# Altium footprint library USB2AER3.PcbLib: 23 footprints (part 1 of 2)
Each footprint in its own frame and in the unit in brackets; x right, y up, seen from the top. Pads: shape width x height; smd on the part's side, far side on the other; paste and mask are expansions set on the pad; w line width, h text height; cw(c..) or ccw(c..) is an arc to the next point about the centre after c.
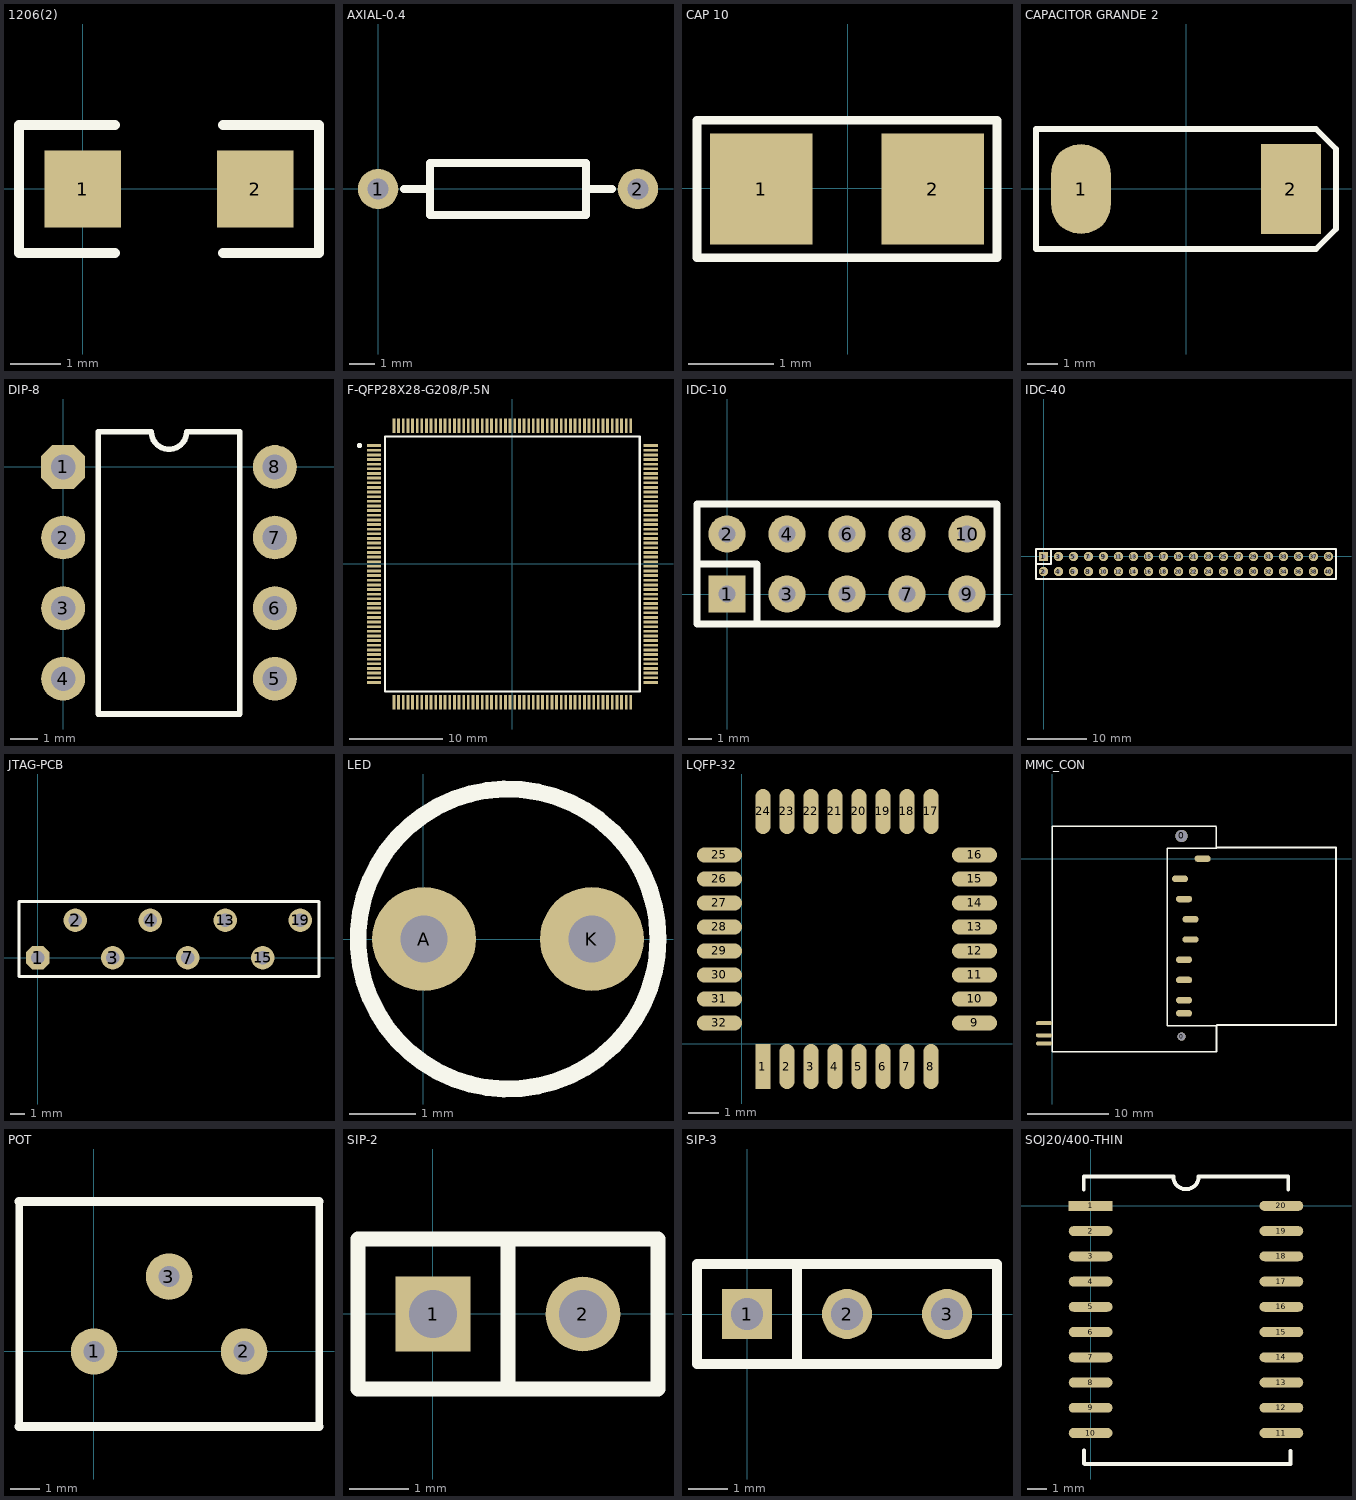
[diagram p0: the footprints below, top view; thin cyan lines are the x and y axes]

## 1206(2) [mil]
pads (2):
  rect 60x60 smd: 1(0.13,-0.19) 2(135.13,-0.19)
Top Overlay:
  lines w7.87: 25.13,-50.19 -49.87,-50.19 -49.87,49.81 25.13,49.81 ; 110.13,-50.19 185.13,-50.19 185.13,49.81 110.13,49.81

## AXIAL-0.4 [mil]
pads (2):
  round 62 hole 32: 1(0.2,-0.13) 2(400.2,-0.13)
Top Overlay:
  lines w12: 40.2,-0.13 80.2,-0.13 ; 320.2,-0.13 360.2,-0.13 ; 80.2,-40.13 80.2,39.87 320.2,39.87 320.2,-40.13 80.2,-40.13

## CAP 10 [mm]
pads (2):
  rect 1.2x1.3 smd: 1(-1.009,-0.007) 2(0.991,-0.007)
Top Overlay:
  lines w0.1: -1.759,-0.807 -1.759,-0.007 -1.759,0.793 1.741,0.793 1.741,-0.807 -1.759,-0.807

## CAPACITOR GRANDE 2 [mm]
pads (2):
  oval 2x3 smd: 1(-3.503,-0.009)
  rect 2x3 smd: 2(3.497,-0.009)
Top Overlay:
  lines w0.2: -5.003,-2.009 -5.003,-0.009 -5.003,1.991 4.33,1.991 4.997,1.325 4.997,-1.342 4.33,-2.009 -5.003,-2.009

## DIP-8 [mil]
pads (8):
  oct 62x62 hole 35: 1(-0.3,-0.19)
  round 62 hole 35: 2(-0.3,-100.19) 3(-0.3,-200.19) 4(-0.3,-300.19) 5(299.7,-300.19) 6(299.7,-200.19) 7(299.7,-100.19) 8(299.7,-0.19)
Top Overlay:
  lines w7.87: 49.7,-350.19 49.7,49.81 124.7,49.81 ccw(c149.7,49.81) 174.7,49.81 249.7,49.81 249.7,-350.19 49.7,-350.19

## F-QFP28X28-G208/P.5N [mm]
pads (208):
  rect 1.55x0.3 smd: 1(-14.907,12.74) 2(-14.907,12.24) 3(-14.907,11.74) 4(-14.907,11.24) 5(-14.907,10.74) 6(-14.907,10.24) 7(-14.907,9.74) 8(-14.907,9.24) 9(-14.907,8.74) 10(-14.907,8.24) 11(-14.907,7.74) 12(-14.907,7.24) 13(-14.907,6.74) 14(-14.907,6.24) 15(-14.907,5.74) 16(-14.907,5.24) 17(-14.907,4.74) 18(-14.907,4.24) 19(-14.907,3.74) 20(-14.907,3.24) 21(-14.907,2.74) 22(-14.907,2.24) 23(-14.907,1.74) 24(-14.907,1.24) 25(-14.907,0.74) 26(-14.907,0.24) 27(-14.907,-0.26) 28(-14.907,-0.76) 29(-14.907,-1.26) 30(-14.907,-1.76) 31(-14.907,-2.26) 32(-14.907,-2.76) 33(-14.907,-3.26) 34(-14.907,-3.76) 35(-14.907,-4.26) 36(-14.907,-4.76) 37(-14.907,-5.26) 38(-14.907,-5.76) 39(-14.907,-6.26) 40(-14.907,-6.76) 41(-14.907,-7.26) 42(-14.907,-7.76) 43(-14.907,-8.26) 44(-14.907,-8.76) 45(-14.907,-9.26) 46(-14.907,-9.76) 47(-14.907,-10.26) 48(-14.907,-10.76) 49(-14.907,-11.26) 50(-14.907,-11.76) 51(-14.907,-12.26) 52(-14.907,-12.76) 105(14.893,-12.76) 106(14.893,-12.26) 107(14.893,-11.76) 108(14.893,-11.26) 109(14.893,-10.76) 110(14.893,-10.26) 111(14.893,-9.76) 112(14.893,-9.26) 113(14.893,-8.76) 114(14.893,-8.26) 115(14.893,-7.76) 116(14.893,-7.26) 117(14.893,-6.76) 118(14.893,-6.26) 119(14.893,-5.76) 120(14.893,-5.26) 121(14.893,-4.76) 122(14.893,-4.26) 123(14.893,-3.76) 124(14.893,-3.26) 125(14.893,-2.76) 126(14.893,-2.26) 127(14.893,-1.76) 128(14.893,-1.26) 129(14.893,-0.76) 130(14.893,-0.26) 131(14.893,0.24) 132(14.893,0.74) 133(14.893,1.24) 134(14.893,1.74) 135(14.893,2.24) 136(14.893,2.74) 137(14.893,3.24) 138(14.893,3.74) 139(14.893,4.24) 140(14.893,4.74) 141(14.893,5.24) 142(14.893,5.74) 143(14.893,6.24) 144(14.893,6.74) 145(14.893,7.24) 146(14.893,7.74) 147(14.893,8.24) 148(14.893,8.74) 149(14.893,9.24) 150(14.893,9.74) 151(14.893,10.24) 152(14.893,10.74) 153(14.893,11.24) 154(14.893,11.74) 155(14.893,12.24) 156(14.893,12.74)
  rect 0.3x1.55 smd: 53(-12.757,-14.91) 54(-12.257,-14.91) 55(-11.757,-14.91) 56(-11.257,-14.91) 57(-10.757,-14.91) 58(-10.257,-14.91) 59(-9.757,-14.91) 60(-9.257,-14.91) 61(-8.757,-14.91) 62(-8.257,-14.91) 63(-7.757,-14.91) 64(-7.257,-14.91) 65(-6.757,-14.91) 66(-6.257,-14.91) 67(-5.757,-14.91) 68(-5.257,-14.91) 69(-4.757,-14.91) 70(-4.257,-14.91) 71(-3.757,-14.91) 72(-3.257,-14.91) 73(-2.757,-14.91) 74(-2.257,-14.91) 75(-1.757,-14.91) 76(-1.257,-14.91) 77(-0.757,-14.91) 78(-0.257,-14.91) 79(0.243,-14.91) 80(0.743,-14.91) 81(1.243,-14.91) 82(1.743,-14.91) 83(2.243,-14.91) 84(2.743,-14.91) 85(3.243,-14.91) 86(3.743,-14.91) 87(4.243,-14.91) 88(4.743,-14.91) 89(5.243,-14.91) 90(5.743,-14.91) 91(6.243,-14.91) 92(6.743,-14.91) 93(7.243,-14.91) 94(7.743,-14.91) 95(8.243,-14.91) 96(8.743,-14.91) 97(9.243,-14.91) 98(9.743,-14.91) 99(10.243,-14.91) 100(10.743,-14.91) 101(11.243,-14.91) 102(11.743,-14.91) 103(12.243,-14.91) 104(12.743,-14.91) 157(12.743,14.89) 158(12.243,14.89) 159(11.743,14.89) 160(11.243,14.89) 161(10.743,14.89) 162(10.243,14.89) 163(9.743,14.89) 164(9.243,14.89) 165(8.743,14.89) 166(8.243,14.89) 167(7.743,14.89) 168(7.243,14.89) 169(6.743,14.89) 170(6.243,14.89) 171(5.743,14.89) 172(5.243,14.89) 173(4.743,14.89) 174(4.243,14.89) 175(3.743,14.89) 176(3.243,14.89) 177(2.743,14.89) 178(2.243,14.89) 179(1.743,14.89) 180(1.243,14.89) 181(0.743,14.89) 182(0.243,14.89) 183(-0.257,14.89) 184(-0.757,14.89) 185(-1.257,14.89) 186(-1.757,14.89) 187(-2.257,14.89) 188(-2.757,14.89) 189(-3.257,14.89) 190(-3.757,14.89) 191(-4.257,14.89) 192(-4.757,14.89) 193(-5.257,14.89) 194(-5.757,14.89) 195(-6.257,14.89) 196(-6.757,14.89) 197(-7.257,14.89) 198(-7.757,14.89) 199(-8.257,14.89) 200(-8.757,14.89) 201(-9.257,14.89) 202(-9.757,14.89) 203(-10.257,14.89) 204(-10.757,14.89) 205(-11.257,14.89) 206(-11.757,14.89) 207(-12.257,14.89) 208(-12.757,14.89)
Top Overlay:
  circle w0.25: c-16.482,12.74 r0.15
  lines w0.25: -13.732,-13.735 13.718,-13.735 13.718,13.715 -13.732,13.715 -13.732,-13.735

## IDC-10 [mil]
pads (10):
  rect 62x62 hole 28: 1(-0.27,0.35)
  round 62 hole 28: 2(-0.27,100.35) 3(99.73,0.35) 4(99.73,100.35) 5(199.73,0.35) 6(199.73,100.35) 7(299.73,0.35) 8(299.73,100.35) 9(399.73,0.35) 10(399.73,100.35)
Top Overlay:
  lines w12: -50.27,50.35 49.73,50.35 49.73,-49.65 ; -50.27,-49.65 449.73,-49.65 449.73,150.35 -50.27,150.35 -50.27,-49.65

## IDC-40 [mil]
pads (40):
  rect 62x62 hole 28: 1(-0.36,-0.19)
  round 62 hole 28: 2(-0.36,-100.19) 3(99.64,-0.19) 4(99.64,-100.19) 5(199.64,-0.19) 6(199.64,-100.19) 7(299.64,-0.19) 8(299.64,-100.19) 9(399.64,-0.19) 10(399.64,-100.19) 11(499.64,-0.19) 12(499.64,-100.19) 13(599.64,-0.19) 14(599.64,-100.19) 15(699.64,-0.19) 16(699.64,-100.19) 17(799.64,-0.19) 18(799.64,-100.19) 19(899.64,-0.19) 20(899.64,-100.19) 21(999.64,-0.19) 22(999.64,-100.19) 23(1099.64,-0.19) 24(1099.64,-100.19) 25(1199.64,-0.19) 26(1199.64,-100.19) 27(1299.64,-0.19) 28(1299.64,-100.19) 29(1399.64,-0.19) 30(1399.64,-100.19) 31(1499.64,-0.19) 32(1499.64,-100.19) 33(1599.64,-0.19) 34(1599.64,-100.19) 35(1699.64,-0.19) 36(1699.64,-100.19) 37(1799.64,-0.19) 38(1799.64,-100.19) 39(1899.64,-0.19) 40(1899.64,-100.19)
Top Overlay:
  lines w12: -50.36,-50.19 49.64,-50.19 49.64,49.81 ; -50.36,-150.19 1949.64,-150.19 1949.64,49.81 -50.36,49.81 -50.36,-150.19

## JTAG-PCB [mil]
pads (8):
  oct 62x62 hole 35: 1(-0.07,0.36)
  round 62 hole 35: 2(99.93,100.36) 3(199.93,0.36) 4(299.93,100.36) 7(399.93,0.36) 13(499.93,100.36) 15(599.93,0.36) 19(699.93,100.36)
Top Overlay:
  lines w8: -50.07,-49.64 749.93,-49.64 749.93,150.36 -50.07,150.36 -50.07,-49.64

## LED [mil]
pads (2):
  round 62 hole 28: A(0.39,0.05) K(100.39,0.05)
Top Overlay:
  circle w10: c50.39,0.05 r89.44

## LQFP-32 [mm]
pads (32):
  rect 0.5x1.5 smd: 1(0.706,-0.752)
  oval 0.5x1.5 smd: 2(1.506,-0.752) 3(2.306,-0.752) 4(3.106,-0.752) 5(3.906,-0.752) 6(4.706,-0.752) 7(5.506,-0.752) 8(6.306,-0.752) 17(6.306,7.748) 18(5.506,7.748) 19(4.706,7.748) 20(3.906,7.748) 21(3.106,7.748) 22(2.306,7.748) 23(1.506,7.748) 24(0.706,7.748)
  oval 1.5x0.5 smd: 9(7.756,0.698) 10(7.756,1.498) 11(7.756,2.298) 12(7.756,3.098) 13(7.756,3.898) 14(7.756,4.698) 15(7.756,5.498) 16(7.756,6.298) 25(-0.744,6.298) 26(-0.744,5.498) 27(-0.744,4.698) 28(-0.744,3.898) 29(-0.744,3.098) 30(-0.744,2.298) 31(-0.744,1.498) 32(-0.744,0.698)

## MMC_CON [mm]
pads (14):
  round 1 hole 1: 0(15.99,-21.996)
  round 1.5 hole 1.5: 0(15.99,2.804)
  oval 2x0.8 smd: 1(15.8,-2.496) 2(16.3,-4.996) 3(17.1,-7.496) 4(17.1,-9.996) 5(16.3,-12.496) 6(16.3,-14.996) 7(16.3,-17.496) 8(16.3,-19.121) 9(18.6,0.004)
  oval 2x0.5 smd: 10(-1.01,-22.846) 11(-1.01,-21.846) 12(-1.01,-20.346)
Top Overlay:
  lines w0.2: -0.01,3.504 -0.01,4.004 20.29,4.004 ; -0.01,3.56 -0.01,-23.872 20.29,-23.872 ; 20.29,1.404 20.29,1.604 ; 20.29,1.648 20.29,3.904 ; 20.31,-23.872 20.31,-20.646 14.214,-20.646 14.214,1.304 20.31,1.304
  lines w0.254: 20.39,-20.596 34.99,-20.596 ; 20.39,1.404 34.99,1.404 ; 35.09,-20.596 35.09,1.404

## POT [mil]
pads (3):
  round 62 hole 28: 1(0.2,-0.13) 2(200.2,-0.13) 3(100.2,99.87)
Top Overlay:
  lines w10: -99.8,-100.13 -99.8,199.87 ; 300.2,-100.13 300.2,199.87
  lines w12: -99.8,-100.13 300.2,-100.13 ; -99.8,199.87 200.2,199.87 300.2,199.87

## SIP-2 [mil]
pads (2):
  rect 50x50 hole 32: 1(0.2,-0.13)
  round 50 hole 32: 2(100.2,-0.13)
Top Overlay:
  lines w10: 50.2,-50.13 50.2,49.87 ; -49.8,-50.13 150.2,-50.13 150.2,49.87 -49.8,49.87 -49.8,-50.13

## SIP-3 [mil]
pads (3):
  rect 50x50 hole 32: 1(-0.29,0.29)
  round 50 hole 32: 2(99.71,0.29) 3(199.71,0.29)
Top Overlay:
  lines w10: 49.71,-49.71 49.71,50.29 ; -50.29,-49.71 249.71,-49.71 249.71,50.29 -50.29,50.29 -50.29,-49.71

## SOJ20/400-THIN [mm]
pads (20):
  rect 2.2x0.5 smd: 1(0.003,0.005)
  oval 2.2x0.5 smd: 2(0.003,-1.265) 3(0.003,-2.535) 4(0.003,-3.805) 5(0.003,-5.075) 6(0.003,-6.345) 7(0.003,-7.615) 8(0.003,-8.885) 9(0.003,-10.155) 10(0.003,-11.425) 11(9.603,-11.425) 12(9.603,-10.155) 13(9.603,-8.885) 14(9.603,-7.615) 15(9.603,-6.345) 16(9.603,-5.075) 17(9.603,-3.805) 18(9.603,-2.535) 19(9.603,-1.265) 20(9.603,0.005)
Top Overlay:
  lines w0.2: -0.342,0.83 -0.342,1.475 4.168,1.475 ccw(c4.803,1.475) 5.438,1.475 9.948,1.475 9.948,0.83 ; -0.327,-12.959 -0.327,-12.314 ; -0.276,-12.975 10.014,-12.975 ; 10.062,-12.985 10.062,-12.34